# EAGLE library part UPA1428AH (library NEC_transisitor_array)
µPA1428AH producer: NEC Japan NPN silicon power transistor array high speed switching use (Darlington transistor) industrial use 4x Darlington transistor VCEmax = 60V ICmax = 2A
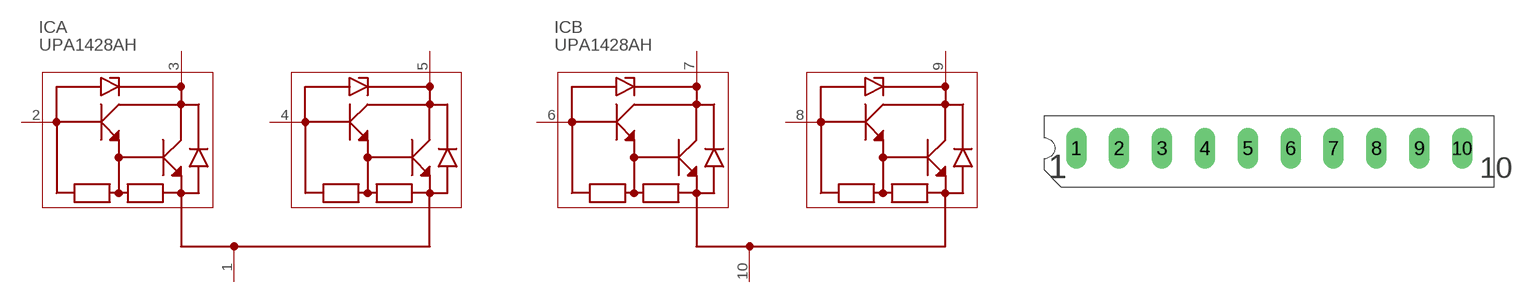
[diagram p0: symbol with the pads of SIL10; footprint SIL10]

Designator prefix IC; gates A=UPA1428 B=UPA1428

## UPA1428AH  [SIL10]
1  A:E  pas
2  A:B  pas
3  A:C  pas
4  A:B1  pas
5  A:C1  pas
6  B:B  pas
7  B:C  pas
8  B:B1  pas
9  B:C1  pas
10  B:E  pas

## Footprint SIL10 (pad centres in mm)
Single In Line
drill 0.7 long: 1 -11.43,0; 2 -8.89,0; 3 -6.35,0; 4 -3.81,0; 5 -1.27,0; 6 1.27,0; 7 3.81,0; 8 6.35,0; 9 8.89,0; 10 11.43,0